# EAGLE library part CONN_24-0.3 (library CONN_24)
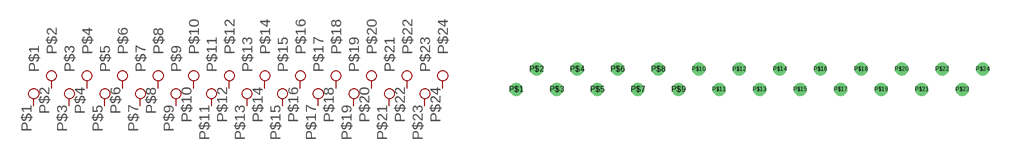
[diagram p0: symbol with the pads of CONN_24-0.3; footprint CONN_24-0.3]

Designator prefix -

## CONN_24-0.3  [CONN_24-0.3]
P$1  P$1
P$2  P$2
P$3  P$3
P$4  P$4
P$5  P$5
P$6  P$6
P$7  P$7
P$8  P$8
P$9  P$9
P$10  P$10
P$11  P$11
P$12  P$12
P$13  P$13
P$14  P$14
P$15  P$15
P$16  P$16
P$17  P$17
P$18  P$18
P$19  P$19
P$20  P$20
P$21  P$21
P$22  P$22
P$23  P$23
P$24  P$24

## Footprint CONN_24-0.3 (pad centres in mm)
drill 0.45 pad 0.75: P$1 0,0; P$2 1.5,1.5; P$3 3,0; P$4 4.5,1.5; P$5 6,0; P$6 7.5,1.5; P$7 9,0; P$8 10.5,1.5; P$9 12,0; P$10 13.5,1.5; P$11 15,0; P$12 16.5,1.5; P$13 18,0; P$14 19.5,1.5; P$15 21,0; P$16 22.5,1.5; P$17 24,0; P$18 25.5,1.5; P$19 27,0; P$20 28.5,1.5; P$21 30,0; P$22 31.5,1.5; P$23 33,0; P$24 34.5,1.5